# EAGLE library part 8POS_DIP_PIANO (library thecustomgeek)
Part 195-8MST from CTS. Through hole 8 position DIP switch, piano style.
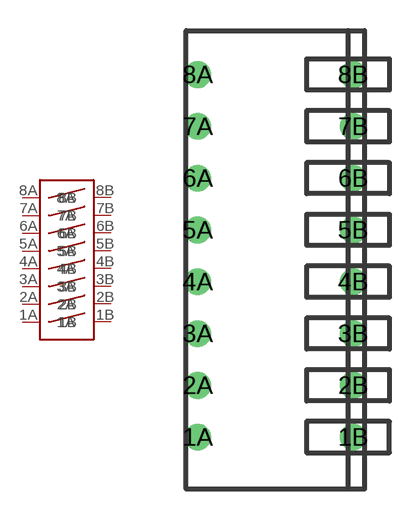
[diagram p1: symbol with the pads of 8DIP_PIANO; footprint 8DIP_PIANO]

Designator prefix -

## 8POS_DIP_PIANO  [8DIP_PIANO]
1A  1A
1B  1B
2A  2A
2B  2B
3A  3A
3B  3B
4A  4A
4B  4B
5A  5A
5B  5B
6A  6A
6B  6B
7A  7A
7B  7B
8A  8A
8B  8B

## Footprint 8DIP_PIANO (pad centres in mm)
drill 0.8: 1A -3.81,-8.89; 1B 3.81,-8.89; 2A -3.81,-6.35; 2B 3.81,-6.35; 3A -3.81,-3.81; 3B 3.81,-3.81; 4A -3.81,-1.27; 4B 3.81,-1.27; 5A -3.81,1.27; 5B 3.81,1.27; 6A -3.81,3.81; 6B 3.81,3.81; 7A -3.81,6.35; 7B 3.81,6.35; 8A -3.81,8.89; 8B 3.81,8.89